# Altium footprint library TSSOP50P310X90-8L.PcbLib: 1 footprints
Each footprint in its own frame and in the unit in brackets; x right, y up, seen from the top. Pads: shape width x height; smd on the part's side, far side on the other; paste and mask are expansions set on the pad; w line width, h text height; cw(c..) or ccw(c..) is an arc to the next point about the centre after c.
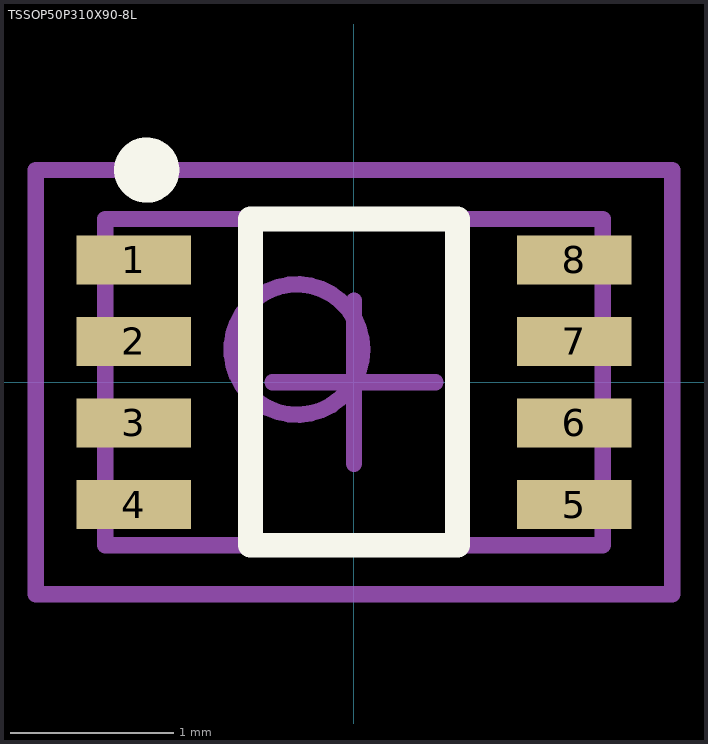
[diagram p0: the footprint, top view; thin cyan lines are the x and y axes]

## TSSOP50P310X90-8L [mm] "TSSOP, 8-Leads, Body 2.00x2.30mm, Pitch 0.50mm, IPC High Density"
height 0.9
pads (8):
  rect 0.7x0.3 smd: 1(-1.35,0.75) 2(-1.35,0.25) 3(-1.35,-0.25) 4(-1.35,-0.75) 5(1.35,-0.75) 6(1.35,-0.25) 7(1.35,0.25) 8(1.35,0.75)
Top Overlay:
  circle w0.2: c-1.27,1.3 r0.1
  lines w0.152: -0.635,-1 -0.635,1 0.635,1 0.635,-1 -0.635,-1
Mechanical 13:
  circle w0.1: c-0.35,0.2 r0.4
  lines w0.1: -1.524,-1 -1.524,1 1.524,1 1.524,-1 -1.524,-1
Mechanical 15:
  lines w0.1: -0.5,0 0.5,0 ; 0,-0.5 0,0.5 ; -1.95,-1.3 -1.95,1.3 1.95,1.3 1.95,-1.3 -1.95,-1.3
Mechanical 29:
  lines w0.1: -1.524,-1 1.524,-1 1.524,1 -1.524,1 -1.524,-1
  text ".Designator" at -0.762,-0.508 h1.52
3D body: height 0.9, standoff 0, extent -1.55,-1 1.55,1